# Altium footprint library SparkFun-Aesthetics.PCBLIB: 74 footprints (part 1 of 5)
Each footprint in its own frame and in the unit in brackets; x right, y up, seen from the top. Pads: shape width x height; smd on the part's side, far side on the other; paste and mask are expansions set on the pad; w line width, h text height; cw(c..) or ccw(c..) is an arc to the next point about the centre after c.
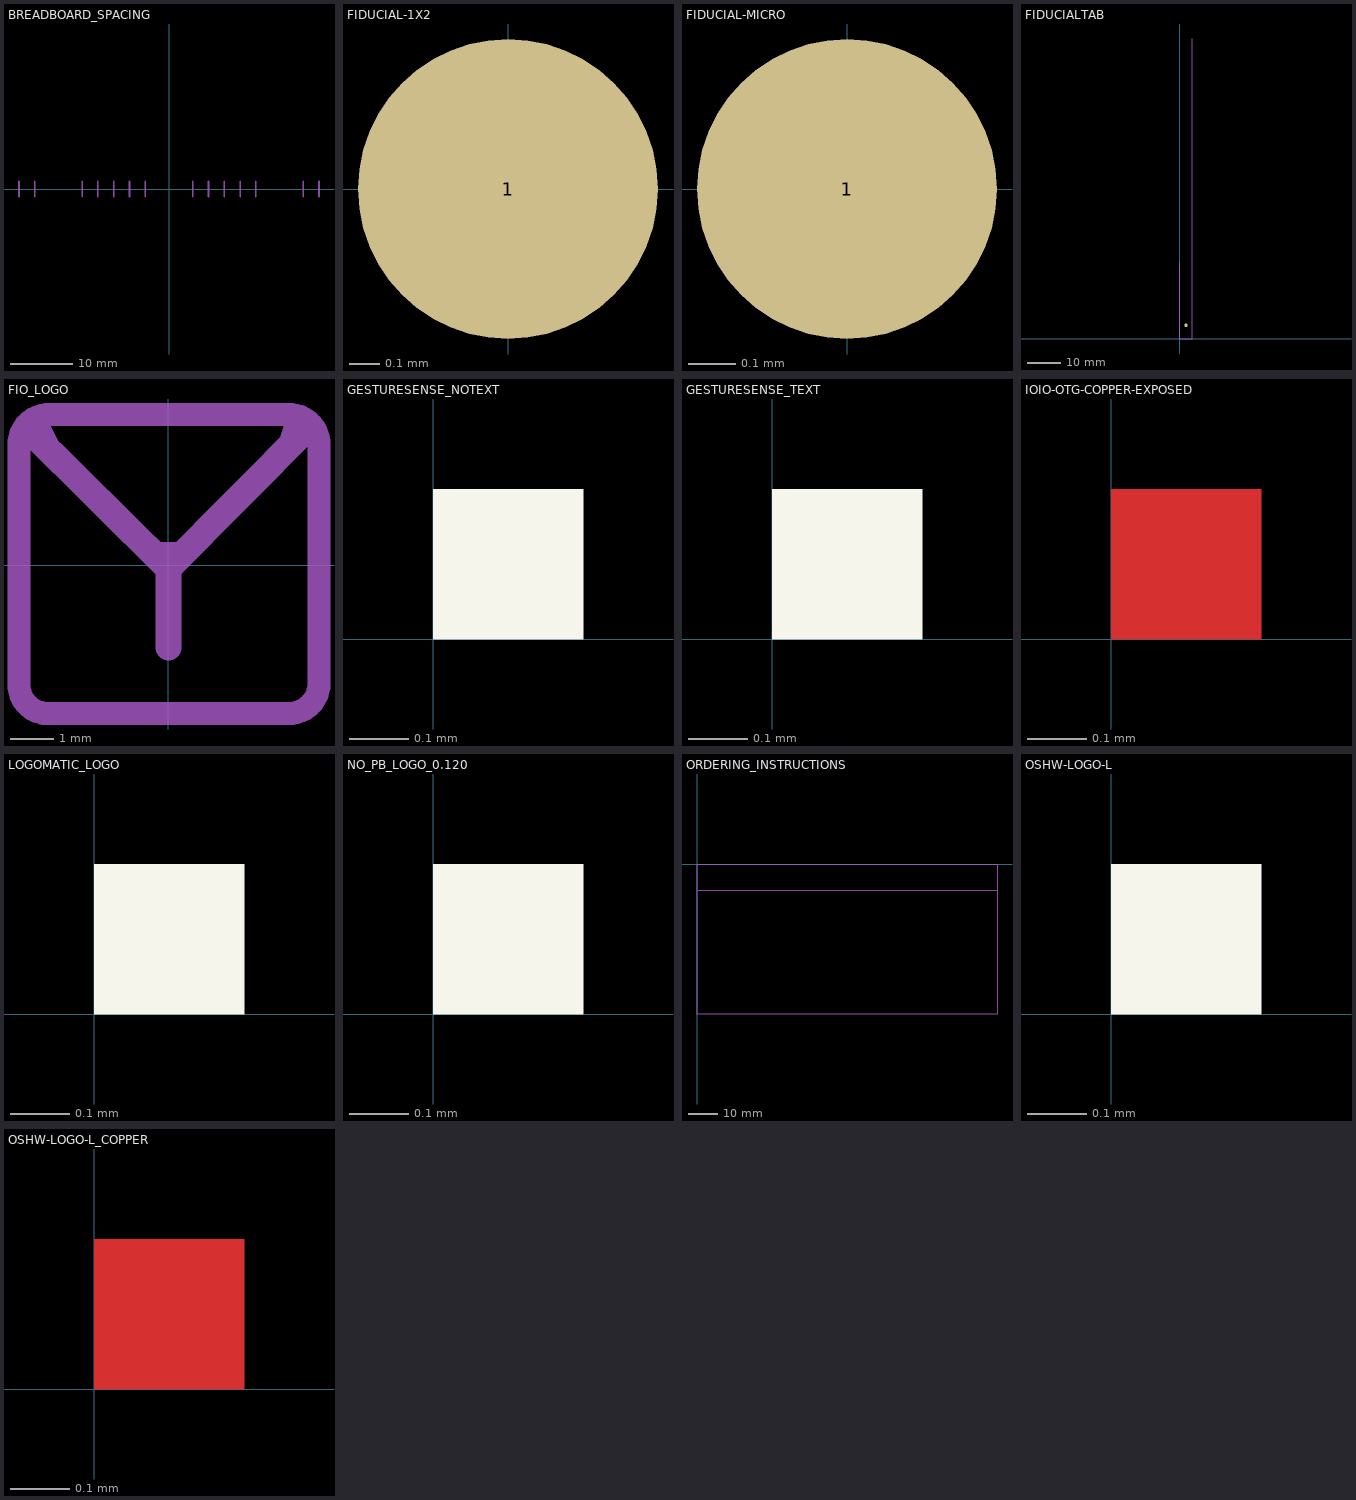
[diagram p0: the footprints below, top view; thin cyan lines are the x and y axes]

## BREADBOARD_SPACING [mm]
Mechanical 16:
  lines w0.254: -24.13,-1.27 -24.13,1.27 ; -21.59,-1.27 -21.59,1.27 ; -13.97,-1.27 -13.97,1.27 ; -11.43,-1.27 -11.43,1.27 ; -8.89,-1.27 -8.89,1.27 ; -6.35,-1.27 -6.35,1.27 ; -3.81,-1.27 -3.81,1.27 ; 3.81,-1.27 3.81,1.27 ; 6.35,-1.27 6.35,1.27 ; 8.89,-1.27 8.89,1.27 ; 11.43,-1.27 11.43,1.27 ; 13.97,-1.27 13.97,1.27 ; 21.59,-1.27 21.59,1.27 ; 24.13,-1.27 24.13,1.27
  text "Breadboard row spacing:" at 0,1.905 h1.08

## CREATIVE_COMMONS [mm]
Mechanical 16:
  text "Released under the Creative Commons Attribution Share-Alike 4.0 License" at -20.32,5.08 h1.51
  text "https://creativecommons.org/licenses/by-sa/4.0/" at 0,2.54 h1.51
  text "Designed by:" at 11.43,0 h1.51

## DUMMY [mm]

## FIDUCIAL-1X2 [mm]
pads (1):
  rrect100% 1x1 smd: 1(0,0)

## FIDUCIAL-MICRO [mm]
pads (1):
  rrect100% 0.635x0.635 smd: 1(0,0)

## FIDUCIALTAB [mm]
pads (1):
  rrect100% 1x1 smd: P$2(1.905,4.064)
Mechanical 1:
  lines w0.203: 0,22.86 0,0 3.81,0 3.81,21.59 ; 3.81,2.54 3.81,21.59 ; 3.81,88.9 3.81,21.59

## FIO_LOGO [mm]
Bottom Overlay:
  region: 0,0 0.254,0 0.254,0.254 0,0.254
  lines w0.533: -3.454,-2.718 ccw(c-2.794,-2.769) -2.845,-3.429 ; -3.454,-2.692 -3.454,2.845 cw(c-2.769,2.794) -2.718,3.48 ; -2.896,-3.429 -2.845,-3.429 ; -2.692,3.48 2.845,3.48 cw(c2.794,2.794) 3.48,2.743 3.48,-2.819 ; 3.48,-2.794 cw(c2.794,-2.743) 2.743,-3.429 -2.845,-3.429
  lines w0.559: -3.073,3.302 -2.769,2.692 ; 2.819,2.794 2.997,3.353
  lines w0.61: -3.251,3.15 0.025,-0.102 ; -0.178,0.229 0.127,0.229 ; 0,-1.905 0,0.152 ; 0,-0.076 3.251,3.2

## FOUR_LAYER_WARNING [mm]
Mechanical 16:
  text "THIS IS A FOUR-LAYER BOARD!" at 0,0 h1.08

## GESTURESENSE_NOTEXT [mm]
Top Overlay:
  region: 0,0 0.254,0 0.254,0.254 0,0.254
  region: 0,0 0.254,0 0.254,0.254 0,0.254
  region: 0,0 0.254,0 0.254,0.254 0,0.254
  region: 0,0 0.254,0 0.254,0.254 0,0.254
  region: 0,0 0.254,0 0.254,0.254 0,0.254
  region: 0,0 0.254,0 0.254,0.254 0,0.254
  region: 0,0 0.254,0 0.254,0.254 0,0.254

## GESTURESENSE_TEXT [mm]
Top Overlay:
  region: 0,0 0.254,0 0.254,0.254 0,0.254
  region: 0,0 0.254,0 0.254,0.254 0,0.254
  region: 0,0 0.254,0 0.254,0.254 0,0.254
  region: 0,0 0.254,0 0.254,0.254 0,0.254
  region: 0,0 0.254,0 0.254,0.254 0,0.254
  region: 0,0 0.254,0 0.254,0.254 0,0.254
  region: 0,0 0.254,0 0.254,0.254 0,0.254
  region: 0,0 0.254,0 0.254,0.254 0,0.254
  region: 0,0 0.254,0 0.254,0.254 0,0.254
  region: 0,0 0.254,0 0.254,0.254 0,0.254
  region: 0,0 0.254,0 0.254,0.254 0,0.254
  region: 0,0 0.254,0 0.254,0.254 0,0.254
  region: 0,0 0.254,0 0.254,0.254 0,0.254
  region: 0,0 0.254,0 0.254,0.254 0,0.254
  region: 0,0 0.254,0 0.254,0.254 0,0.254
  region: 0,0 0.254,0 0.254,0.254 0,0.254
  region: 0,0 0.254,0 0.254,0.254 0,0.254
  region: 0,0 0.254,0 0.254,0.254 0,0.254
  region: 0,0 0.254,0 0.254,0.254 0,0.254
  region: 0,0 0.254,0 0.254,0.254 0,0.254
  region: 0,0 0.254,0 0.254,0.254 0,0.254
  region: 0,0 0.254,0 0.254,0.254 0,0.254
  region: 0,0 0.254,0 0.254,0.254 0,0.254
  region: 0,0 0.254,0 0.254,0.254 0,0.254
  region: 0,0 0.254,0 0.254,0.254 0,0.254
  region: 0,0 0.254,0 0.254,0.254 0,0.254
  region: 0,0 0.254,0 0.254,0.254 0,0.254
  region: 0,0 0.254,0 0.254,0.254 0,0.254
  region: 0,0 0.254,0 0.254,0.254 0,0.254
  region: 0,0 0.254,0 0.254,0.254 0,0.254
  region: 0,0 0.254,0 0.254,0.254 0,0.254
  region: 0,0 0.254,0 0.254,0.254 0,0.254
  region: 0,0 0.254,0 0.254,0.254 0,0.254
  region: 0,0 0.254,0 0.254,0.254 0,0.254
  region: 0,0 0.254,0 0.254,0.254 0,0.254
  region: 0,0 0.254,0 0.254,0.254 0,0.254

## IOIO-OTG-COPPER-EXPOSED [mm]
Top Layer:
  region: 0,0 0.254,0 0.254,0.254 0,0.254
  region: 0,0 0.254,0 0.254,0.254 0,0.254
  region: 0,0 0.254,0 0.254,0.254 0,0.254
  region: 0,0 0.254,0 0.254,0.254 0,0.254
  region: 0,0 0.254,0 0.254,0.254 0,0.254
  region: 0,0 0.254,0 0.254,0.254 0,0.254
  region: 0,0 0.254,0 0.254,0.254 0,0.254
  region: 0,0 0.254,0 0.254,0.254 0,0.254
  region: 0,0 0.254,0 0.254,0.254 0,0.254
  region: 0,0 0.254,0 0.254,0.254 0,0.254
  region: 0,0 0.254,0 0.254,0.254 0,0.254
Top Solder:
  region: 0,0 0.254,0 0.254,0.254 0,0.254
  region: 0,0 0.254,0 0.254,0.254 0,0.254
  region: 0,0 0.254,0 0.254,0.254 0,0.254
  region: 0,0 0.254,0 0.254,0.254 0,0.254
  region: 0,0 0.254,0 0.254,0.254 0,0.254
  region: 0,0 0.254,0 0.254,0.254 0,0.254
  region: 0,0 0.254,0 0.254,0.254 0,0.254
  region: 0,0 0.254,0 0.254,0.254 0,0.254
  region: 0,0 0.254,0 0.254,0.254 0,0.254
  region: 0,0 0.254,0 0.254,0.254 0,0.254
  region: 0,0 0.254,0 0.254,0.254 0,0.254

## LOGOMATIC_LOGO [mm]
Top Overlay:
  region: 0,0 0.254,0 0.254,0.254 0,0.254
  region: 0,0 0.254,0 0.254,0.254 0,0.254
  region: 0,0 0.254,0 0.254,0.254 0,0.254
  region: 0,0 0.254,0 0.254,0.254 0,0.254
  region: 0,0 0.254,0 0.254,0.254 0,0.254
  region: 0,0 0.254,0 0.254,0.254 0,0.254
  region: 0,0 0.254,0 0.254,0.254 0,0.254
  region: 0,0 0.254,0 0.254,0.254 0,0.254
  region: 0,0 0.254,0 0.254,0.254 0,0.254
  region: 0,0 0.254,0 0.254,0.254 0,0.254
  region: 0,0 0.254,0 0.254,0.254 0,0.254
  region: 0,0 0.254,0 0.254,0.254 0,0.254
  region: 0,0 0.254,0 0.254,0.254 0,0.254
  region: 0,0 0.254,0 0.254,0.254 0,0.254
  region: 0,0 0.254,0 0.254,0.254 0,0.254

## NO_PB_LOGO_0.120 [mm]
Top Overlay:
  region: 0,0 0.254,0 0.254,0.254 0,0.254
  region: 0,0 0.254,0 0.254,0.254 0,0.254
  region: 0,0 0.254,0 0.254,0.254 0,0.254
  region: 0,0 0.254,0 0.254,0.254 0,0.254
  region: 0,0 0.254,0 0.254,0.254 0,0.254
  region: 0,0 0.254,0 0.254,0.254 0,0.254

## ORDERING_INSTRUCTIONS [mm]
Mechanical 16:
  lines w0.203: 0,-8.89 0,-50.8 101.6,-50.8 101.6,-8.89 ; 0,-8.89 0,0 101.6,0 101.6,-8.89 ; 0,-8.89 101.6,-8.89
  text "Ordering Instructions:" at 1.27,-1.27 h2.59
  text "(Add these comments when uploading gerbers.)" at 1.27,-6.35 h1.51

## OSHW-LOGO-L [mm]
Top Overlay:
  region: 0,0 0.254,0 0.254,0.254 0,0.254

## OSHW-LOGO-L_COPPER [mm]
Top Layer:
  region: 0,0 0.254,0 0.254,0.254 0,0.254